# Altium integrated library TL2230EEF100.IntLib: 1 symbol
Pins are listed as number, name and electrical type; pins without a type are passive.

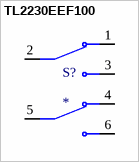
[diagram p0: symbol TL2230EEF100]

## TL2230EEF100
designator S?
Pushbutton Switch DPDT Standard Through Hole; MP: TL2230EEF100; MF: E-Switch; Price: None; SnapEDA_Link: https://www.snapeda.com/parts/TL2230EEF100/E-Switch/view-part/?ref=snap; Purchase-URL: https://pricing.snapeda.com/search/part/TL2230EEF100/?ref=eda; Value: *; Availability: In Stock; Package: None; Check_prices: https://www.snapeda.com/parts/TL2230EEF100/E-Switch/view-part/?ref=eda
footprint SW_TL2230EEF100
pins: 1 NC1, 2 COM1, 3 NO1, 4 NC2, 5 COM2, 6 NO2